# EAGLE library part ARDUINO_NANO (library ARDUINO_NANO)
Arduino nano Created by Aadesh Borate Features : Microcontroller ATmega328 Operating Voltage (logic level) : 5 V Input Voltage (Recommended) : 7-12 V Digital I/O Pins : 22 (out of which 6 provide PWM Output) Analog Input Pins : 8 DC Current per I/O Pin : 40 mA Flash Memory 32 KB (ATmega328) of which 2 KB used by bootloader SRAM : 2 KB (ATmega328) EEPROM : 1 KB (ATmega328) Clock Speed : 16 MHz Dimensions : 45 mm × 18 mm Buy this module at Robu.in <https://robu.in/product/arduino-nano-board-r3-with-ch340-chip-wo-usb-cable-solderedarduino-nano-r3-wo-usb-cable-soldered/?gclid=Cj0KCQiAhojzBRC3ARIsAGtNtHWRwDrVGBCEha0LIRQqT032PDmtLNaqUXOEZoruH2qH2ISvYZfU39kaAl9MEALw_wcB> <
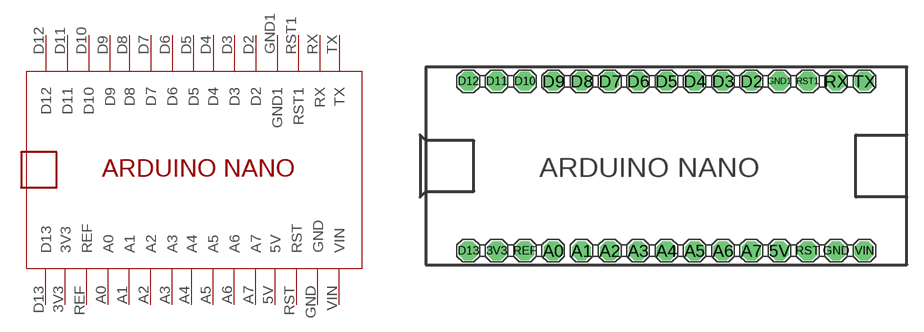
[diagram p0: symbol with the pads of ARDUINO_NANO; footprint ARDUINO_NANO]

Designator prefix -

## ARDUINO_NANO  [ARDUINO_NANO]
3V3  3V3
5V  5V
A0  A0
A1  A1
A2  A2
A3  A3
A4  A4
A5  A5
A6  A6
A7  A7
D2  D2
D3  D3
D4  D4
D5  D5
D6  D6
D7  D7
D8  D8
D9  D9
D10  D10
D11  D11
D12  D12
D13  D13
GND  GND
GND1  GND1
REF  REF
RST  RST
RST1  RST1
RX  RX
TX  TX
VIN  VIN

## Footprint ARDUINO_NANO (pad centres in mm)
Arduino nano Created by Aadesh Borate Features : Microcontroller ATmega328 Operating Voltage (logic level) : 5 V Input Voltage (Recommended) : 7-12 V Digital I/O Pins : 22 (out of which 6 provide PWM Output) Analog Input Pins : 8 DC Current per I/O Pin : 40 mA Flash Memory 32 KB (ATmega328) of which 2 KB used by bootloader SRAM : 2 KB (ATmega328) EEPROM : 1 KB (ATmega328) Clock Speed : 16 MHz Dimensions : 45 mm × 18 mm Buy this module at Robu.in <https://robu.in/product/arduino-nano-board-r3-with-ch340-chip-wo-usb-cable-solderedarduino-nano-r3-wo-usb-cable-soldered/?gclid=Cj0KCQiAhojzBRC3ARIsAGtNtHWRwDrVGBCEha0LIRQqT032PDmtLNaqUXOEZoruH2qH2ISvYZfU39kaAl9MEALw_wcB> <
drill 1.13 octagon: 3V3 -15.24,-7.62; 5V 10.16,-7.62; A0 -10.16,-7.62; A1 -7.62,-7.62; A2 -5.08,-7.62; A3 -2.54,-7.62; A4 0,-7.62; A5 2.54,-7.62; A6 5.08,-7.62; A7 7.62,-7.62; D2 7.62,7.62; D3 5.08,7.62; D4 2.54,7.62; D5 0,7.62; D6 -2.54,7.62; D7 -5.08,7.62; D8 -7.62,7.62; D9 -10.16,7.62; D10 -12.7,7.62; D11 -15.24,7.62; D12 -17.78,7.62; D13 -17.78,-7.62; GND 15.24,-7.62; GND1 10.16,7.62; REF -12.7,-7.62; RST 12.7,-7.62; RST1 12.7,7.62; RX 15.24,7.62; TX 17.78,7.62; VIN 17.78,-7.62